# Altium footprint library SRR6603.PcbLib: 1 footprints
Each footprint in its own frame and in the unit in brackets; x right, y up, seen from the top. Pads: shape width x height; smd on the part's side, far side on the other; paste and mask are expansions set on the pad; w line width, h text height; cw(c..) or ccw(c..) is an arc to the next point about the centre after c.
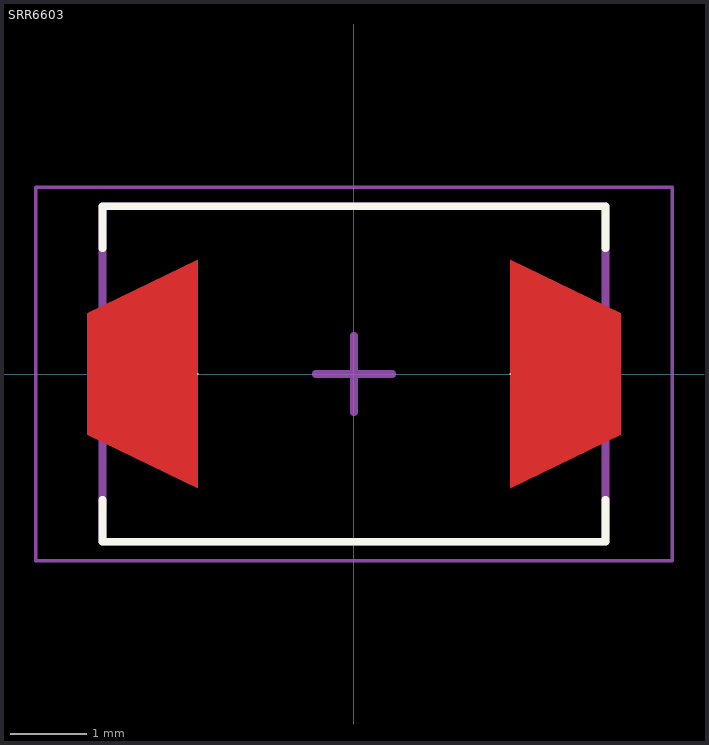
[diagram p0: the footprint, top view; thin cyan lines are the x and y axes]

## SRR6603 [mil]
height 118.11
pads (2):
  round 1 smd: 1(-80.71,0) 2(80.71,0)
Top Layer:
  region: -80.71,59.06 -80.71,-59.06 -137.8,-31.5 -137.8,31.5
  region: 80.71,59.06 80.71,-59.06 137.8,-31.5 137.8,31.5
Top Overlay:
  lines w3.94: -129.92,-64.96 -129.92,-86.61 129.92,-86.61 129.92,-64.96 ; -129.92,64.96 -129.92,86.61 129.92,86.61 129.92,64.96
Mechanical 1:
  lines w3.94: -129.92,-86.61 129.92,-86.61 129.92,86.61 -129.92,86.61 -129.92,-86.61
  text ".Designator" at -125,-10.17 h25.59
Mechanical 2:
  lines w1.97: -164.37,-96.46 164.37,-96.46 164.37,96.46 -164.37,96.46 -164.37,-96.46
  lines w3.94: -19.68,0 19.69,0 ; 0,-19.68 0,19.68
3D body "srr6603.stp": height 118.11, standoff 0, extent -129.92,-86.61 129.92,86.61